# EAGLE library part CS424* (library NewSDR)
110 dB, 192 kHz 6-Ch Codec with PLL
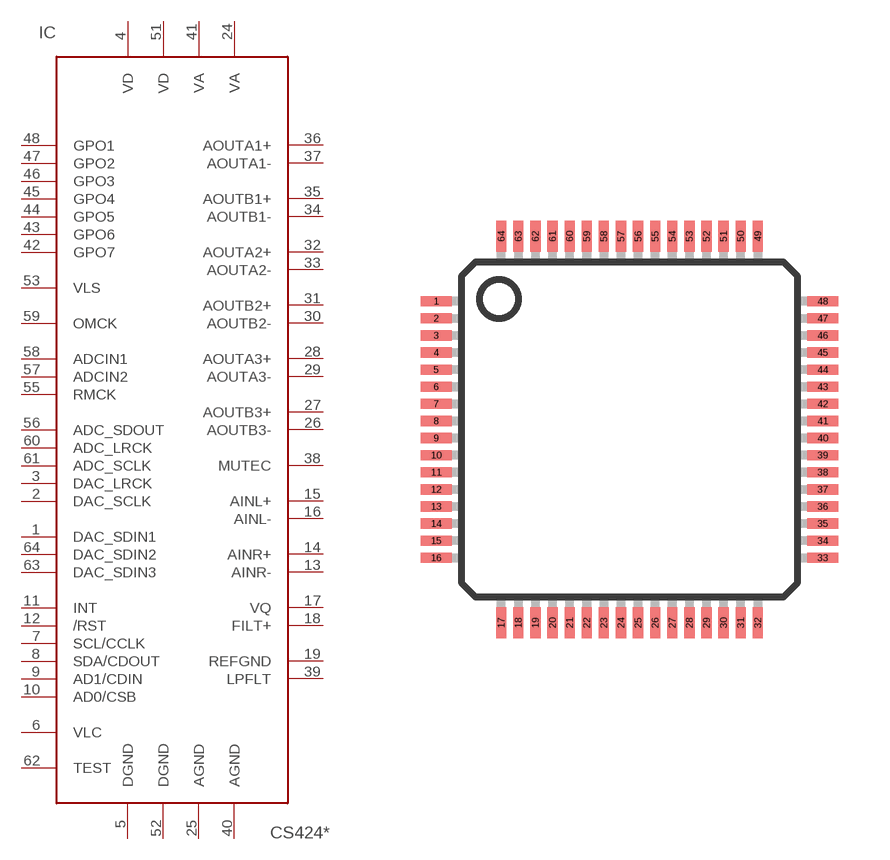
[diagram p50: symbol with the pads of LQFP-ST-64-2; footprint LQFP-ST-64-2]

Designator prefix IC

## CS42416, CS42418  [LQFP-ST-64-2]
1  DAC_SDIN1  in
2  DAC_SCLK
3  DAC_LRCK
4  VD  pwr
5  DGND  pwr
6  VLC  pwr
7  SCL/CCLK  in
8  SDA/CDOUT
9  AD1/CDIN  in
10  AD0/CSB  in
11  INT
12  /RST  in
13  AINR-  in
14  AINR+  in
15  AINL+  in
16  AINL-  in
17  VQ  pwr
18  FILT+  pas
19  REFGND  pwr
24  VA  pwr
25  AGND  pwr
26  AOUTB3-  out
27  AOUTB3+  out
28  AOUTA3+  out
29  AOUTA3-  out
30  AOUTB2-  out
31  AOUTB2+  out
32  AOUTA2+  out
33  AOUTA2-  out
34  AOUTB1-  out
35  AOUTB1+  out
36  AOUTA1+  out
37  AOUTA1-  out
38  MUTEC  out
39  LPFLT  pas
40  AGND  pwr
41  VA  pwr
42  GPO7
43  GPO6
44  GPO5
45  GPO4
46  GPO3
47  GPO2
48  GPO1
51  VD  pwr
52  DGND  pwr
53  VLS  pwr
55  RMCK  out
56  ADC_SDOUT  out
57  ADCIN2  in
58  ADCIN1  in
59  OMCK  in
60  ADC_LRCK
61  ADC_SCLK
62  TEST  in
63  DAC_SDIN3  in
64  DAC_SDIN2  in

## Footprint LQFP-ST-64-2 (pad centres in mm)
64-Lead Low Profile Quad Flat Package [LQFP] (ST-64-2) COMPLIANT TO JEDEC STANDARDS MS-026-BCD Source: http://www.analog.com/UploadedFiles/Data_Sheets/288945048AD7C7019_20_1_2_4_5_6_7_0.pdf
smd 0.9 x 0.3: 1 -5.65,3.75; 2 -5.65,3.25; 3 -5.65,2.75; 4 -5.65,2.25; 5 -5.65,1.75; 6 -5.65,1.25; 7 -5.65,0.75; 8 -5.65,0.25; 9 -5.65,-0.25; 10 -5.65,-0.75; 11 -5.65,-1.25; 12 -5.65,-1.75; 13 -5.65,-2.25; 14 -5.65,-2.75; 15 -5.65,-3.25; 16 -5.65,-3.75; 33 5.65,-3.75; 34 5.65,-3.25; 35 5.65,-2.75; 36 5.65,-2.25; 37 5.65,-1.75; 38 5.65,-1.25; 39 5.65,-0.75; 40 5.65,-0.25; 41 5.65,0.25; 42 5.65,0.75; 43 5.65,1.25; 44 5.65,1.75; 45 5.65,2.25; 46 5.65,2.75; 47 5.65,3.25; 48 5.65,3.75
smd 0.3 x 0.9: 17 -3.75,-5.65; 18 -3.25,-5.65; 19 -2.75,-5.65; 20 -2.25,-5.65; 21 -1.75,-5.65; 22 -1.25,-5.65; 23 -0.75,-5.65; 24 -0.25,-5.65; 25 0.25,-5.65; 26 0.75,-5.65; 27 1.25,-5.65; 28 1.75,-5.65; 29 2.25,-5.65; 30 2.75,-5.65; 31 3.25,-5.65; 32 3.75,-5.65; 49 3.75,5.65; 50 3.25,5.65; 51 2.75,5.65; 52 2.25,5.65; 53 1.75,5.65; 54 1.25,5.65; 55 0.75,5.65; 56 0.25,5.65; 57 -0.25,5.65; 58 -0.75,5.65; 59 -1.25,5.65; 60 -1.75,5.65; 61 -2.25,5.65; 62 -2.75,5.65; 63 -3.25,5.65; 64 -3.75,5.65